# EAGLE library part RPI_HATPINHEADER (library mille-feuille)
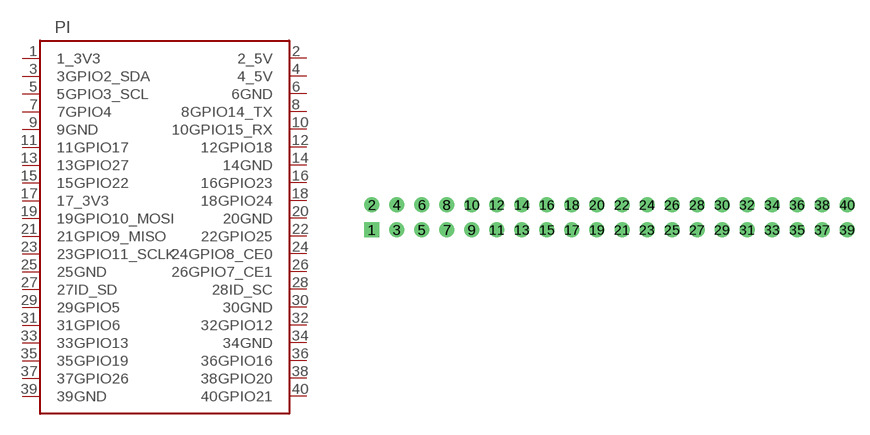
[diagram p4: symbol with the pads of PIN2X20; footprint PIN2X20]

Designator prefix PI

## RPI_HATPINHEADER  [PIN2X20]
1  1_3V3
2  2_5V
3  3GPIO2_SDA
4  4_5V
5  5GPIO3_SCL
6  6GND
7  7GPIO4
8  8GPIO14_TX
9  9GND
10  10GPIO15_RX
11  11GPIO17
12  12GPIO18
13  13GPIO27
14  14GND
15  15GPIO22
16  16GPIO23
17  17_3V3
18  18GPIO24
19  19GPIO10_MOSI
20  20GND
21  21GPIO9_MISO
22  22GPIO25
23  23GPIO11_SCLK
24  24GPIO8_CE0
25  25GND
26  26GPIO7_CE1
27  27ID_SD
28  28ID_SC
29  29GPIO5
30  30GND
31  31GPIO6
32  32GPIO12
33  33GPIO13
34  34GND
35  35GPIO19
36  36GPIO16
37  37GPIO26
38  38GPIO20
39  39GND
40  40GPIO21

## Footprint PIN2X20 (pad centres in mm)
drill 1.016 square: 1 -24.13,-1.27
drill 1.016: 2 -24.13,1.27; 3 -21.59,-1.27; 4 -21.59,1.27; 5 -19.05,-1.27; 6 -19.05,1.27; 7 -16.51,-1.27; 8 -16.51,1.27; 9 -13.97,-1.27; 10 -13.97,1.27; 11 -11.43,-1.27; 12 -11.43,1.27; 13 -8.89,-1.27; 14 -8.89,1.27; 15 -6.35,-1.27; 16 -6.35,1.27; 17 -3.81,-1.27; 18 -3.81,1.27; 19 -1.27,-1.27; 20 -1.27,1.27; 21 1.27,-1.27; 22 1.27,1.27; 23 3.81,-1.27; 24 3.81,1.27; 25 6.35,-1.27; 26 6.35,1.27; 27 8.89,-1.27; 28 8.89,1.27; 29 11.43,-1.27; 30 11.43,1.27; 31 13.97,-1.27; 32 13.97,1.27; 33 16.51,-1.27; 34 16.51,1.27; 35 19.05,-1.27; 36 19.05,1.27; 37 21.59,-1.27; 38 21.59,1.27; 39 24.13,-1.27; 40 24.13,1.27